# Altium footprint library RASPBERRYPIZEROWV13.PcbLib: 1 footprints
Each footprint in its own frame and in the unit in brackets; x right, y up, seen from the top. Pads: shape width x height; smd on the part's side, far side on the other; paste and mask are expansions set on the pad; w line width, h text height; cw(c..) or ccw(c..) is an arc to the next point about the centre after c.
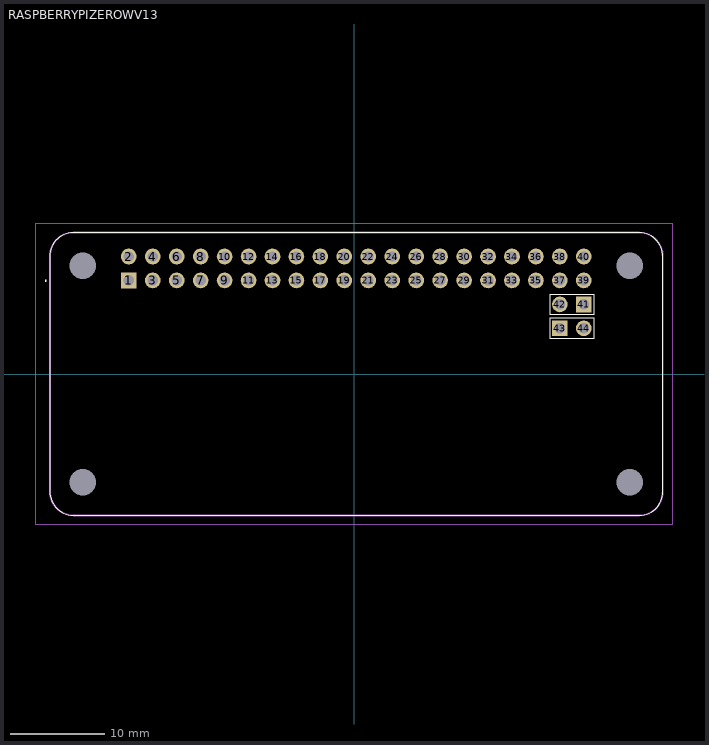
[diagram p0: the footprint, top view; thin cyan lines are the x and y axes]

## RASPBERRYPIZEROWV13 [mm]
pads (48):
  rect 1.665x1.665 hole 1.11: 1(-23.885,9.92) 41(24.375,7.38) 43(21.835,4.84)
  round 1.665 hole 1.11: 2(-23.885,12.46) 3(-21.345,9.92) 4(-21.345,12.46) 5(-18.805,9.92) 6(-18.805,12.46) 7(-16.265,9.92) 8(-16.265,12.46) 9(-13.725,9.92) 10(-13.725,12.46) 11(-11.185,9.92) 12(-11.185,12.46) 13(-8.645,9.92) 14(-8.645,12.46) 15(-6.105,9.92) 16(-6.105,12.46) 17(-3.565,9.92) 18(-3.565,12.46) 19(-1.025,9.92) 20(-1.025,12.46) 21(1.515,9.92) 22(1.515,12.46) 23(4.055,9.92) 24(4.055,12.46) 25(6.595,9.92) 26(6.595,12.46) 27(9.135,9.92) 28(9.135,12.46) 29(11.675,9.92) 30(11.675,12.46) 31(14.215,9.92) 32(14.215,12.46) 33(16.755,9.92) 34(16.755,12.46) 35(19.295,9.92) 36(19.295,12.46) 37(21.835,9.92) 38(21.835,12.46) 39(24.375,9.92) 40(24.375,12.46) 42(21.835,7.38) 44(24.375,4.84)
  round 1.4 hole 2.8 unplated: MH1(-28.755,11.5) MH2(-28.755,-11.5) MH3(29.245,-11.5) MH4(29.245,11.5)
Top Overlay:
  lines w0.1: -32.255,12.46 -32.255,-12.46 ccw(c-29.715,-12.46) -29.759,-15.001 ; -32.255,12.464 cw(c-29.755,12.499) -29.755,15 30.245,15 ; -29.755,-15 30.245,-15 ccw(c30.245,-12.499) 32.745,-12.464 ; 30.249,15.001 cw(c30.205,12.46) 32.746,12.46 ; 32.745,-12.46 32.745,12.46 ; -32.695,9.84 ccw(c-32.695,9.89) -32.695,9.94 ; -32.695,9.84 -32.695,9.84 ; -32.695,9.84 cw(c-32.695,9.89) -32.695,9.94 ; -32.695,9.94 -32.695,9.94 ; 20.805,3.74 25.405,3.74 25.405,5.94 20.805,5.94 20.805,3.74 ; 20.805,6.28 25.405,6.28 25.405,8.48 20.805,8.48 20.805,6.28
Mechanical 15:
  lines w0.2: -32.255,12.46 -32.255,-12.46 ccw(c-29.715,-12.46) -29.759,-15.001 ; -32.255,12.464 cw(c-29.755,12.499) -29.755,15 30.245,15 ; -29.755,-15 30.245,-15 ccw(c30.245,-12.499) 32.745,-12.464 ; 30.249,15 cw(c30.245,12.499) 32.745,12.46 ; 32.745,-12.46 32.745,12.46
Mechanical 20:
  lines w0.1: -33.745,-16 33.745,-16 33.745,16 -33.745,16 -33.745,-16